# EAGLE library part EPUCK_BATTERY (library iridia)
E-Puck Battery Holder As on epuck charger
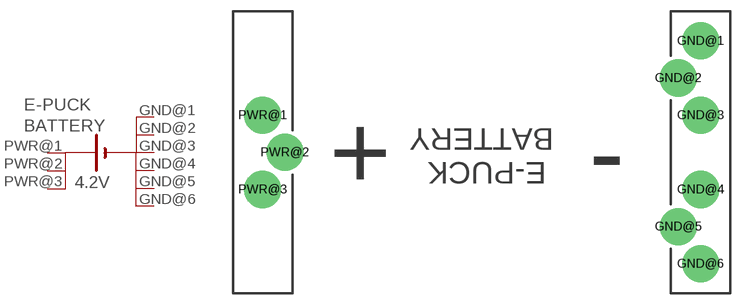
[diagram p1: symbol with the pads of EPUCK_BATTERY; footprint EPUCK_BATTERY]

Designator prefix -

## EPUCK_BATTERY  [EPUCK_BATTERY]
GND@1  -1  pwr
GND@2  -2  pwr
GND@3  -3  pwr
GND@4  -4  pwr
GND@5  -5  pwr
GND@6  -6  pwr
PWR@1  +1  pwr
PWR@2  +2  pwr
PWR@3  +3  pwr

## Footprint EPUCK_BATTERY (pad centres in mm)
drill 2.8 pad 5: GND@1 29,15; GND@2 26,10; GND@3 29,5; GND@4 29,-5; GND@5 26,-10; GND@6 29,-15; PWR@1 -30,5; PWR@2 -27,0; PWR@3 -30,-5